# Altium footprint library SG__PCB_SO.PcbLib: 16 footprints
Each footprint in its own frame and in the unit in brackets; x right, y up, seen from the top. Pads: shape width x height; smd on the part's side, far side on the other; paste and mask are expansions set on the pad; w line width, h text height; cw(c..) or ccw(c..) is an arc to the next point about the centre after c.
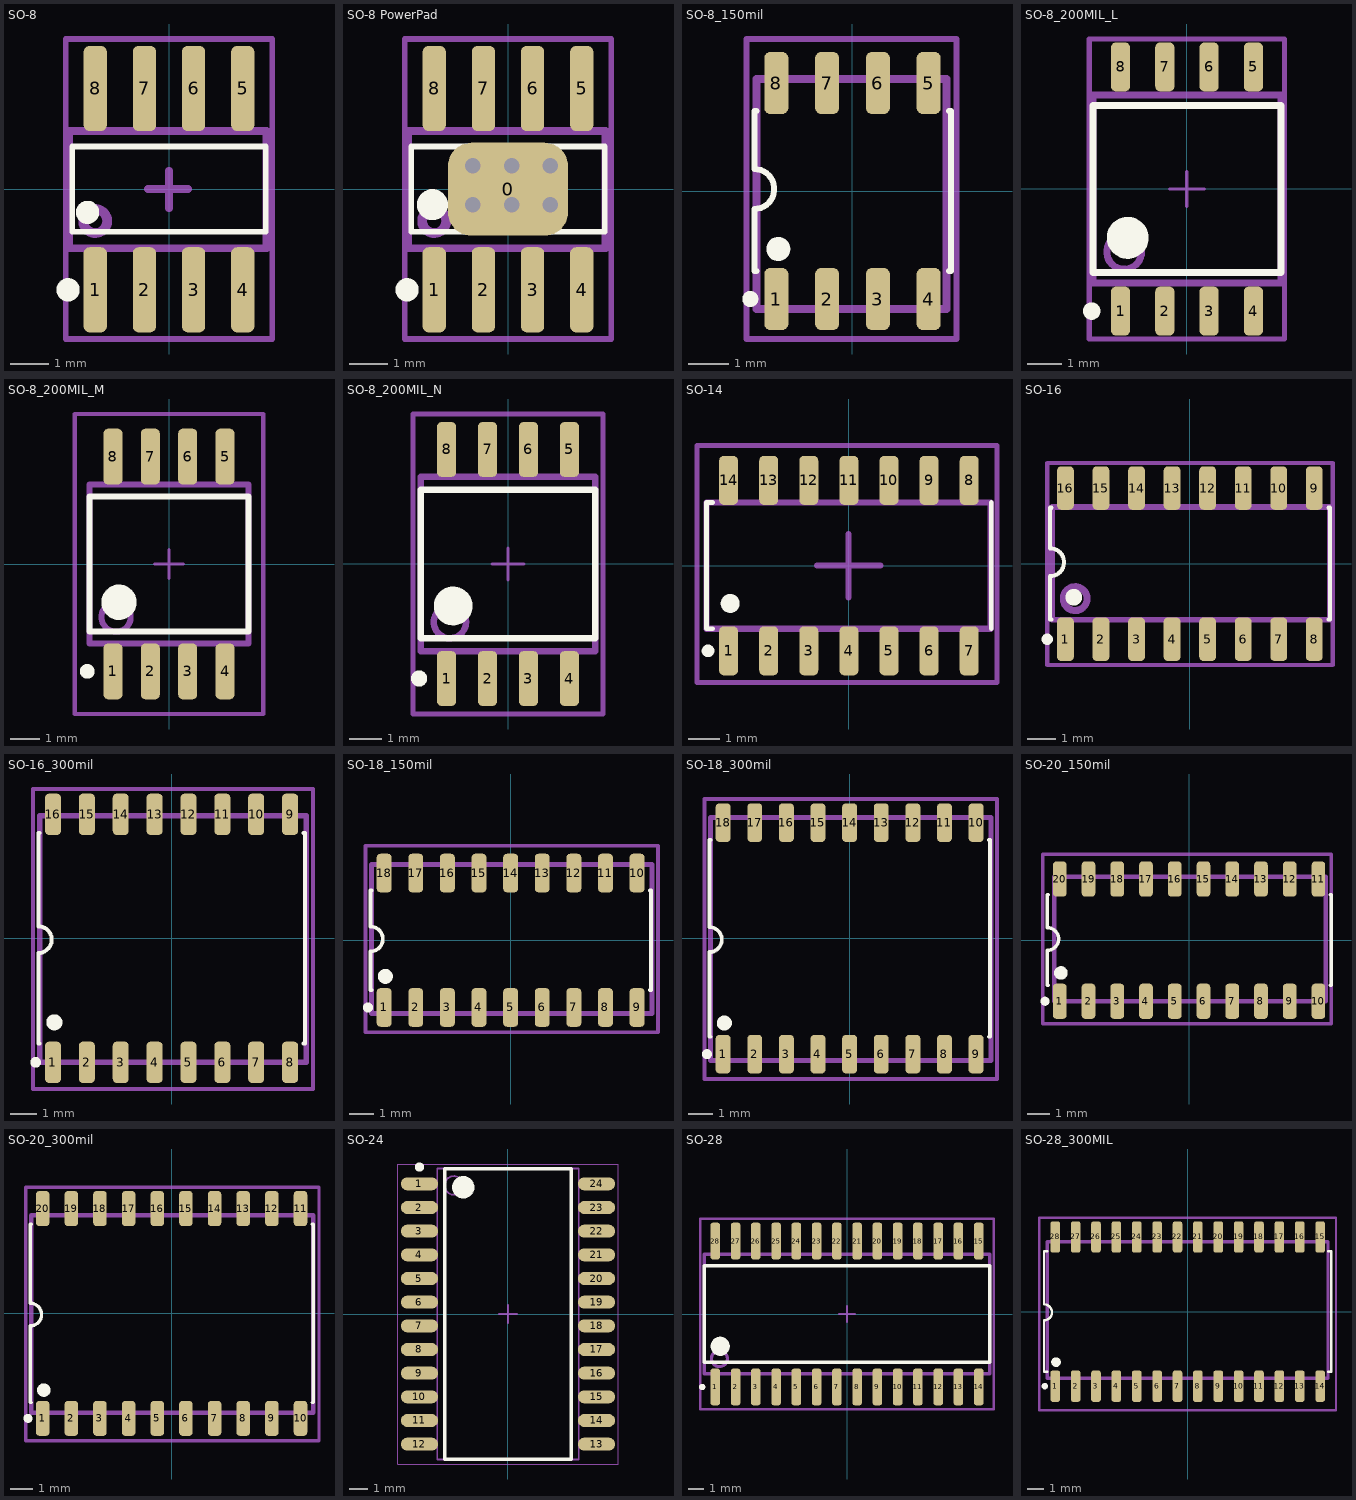
[diagram p0: the footprints below, top view; thin cyan lines are the x and y axes]

## SO-8 [mm] "Small Outline; 8 Leads; Body Width 3.9 mm; Pitch 1.27 mm"
height 1.75
pads (8):
  rrect50% 0.6x2.2 smd mask+0.05: 1(-1.905,-2.6) 2(-0.635,-2.6) 3(0.635,-2.6) 4(1.905,-2.6) 5(1.905,2.6) 6(0.635,2.6) 7(-0.635,2.6) 8(-1.905,2.6)
Top Overlay:
  circle w0.3: c-2.605,-2.6 r0.15
  circle w0.3: c-2.105,-0.6 r0.15
  lines w0.15: -2.5,-1.1 -2.5,1.1 2.5,1.1 2.5,-1.1 -2.5,-1.1
Top Assembly:
  circle w0.254: c-1.905,-0.825 r0.309
  lines w0.2: -2.58,-1.525 -2.58,1.5 2.52,1.5 2.52,-1.525 -2.58,-1.525
Top Courtyard:
  lines w0.15: -2.667,-3.87 2.667,-3.87 2.667,3.877 -2.667,3.877 -2.667,-3.87
  lines w0.2: -0.539,0.004 0,0.004 ; 0,-0.494 0,0.004 ; 0,0.476 0,0.004 ; 0.493,0.004 0,0.004
3D body "so8.stp": height 1.73, standoff -0.04, extent -2.45,-3.068 2.44,3.068

## SO-8 PowerPad [mm] "Small Outline; 8 Leads; Body Width 3.9 mm; Pitch 1.27 mm"
height 1.75
pads (9):
  rrect50% 3.1x2.4 smd: 0(0,0)
  rrect50% 0.6x2.2 smd mask+0.05: 1(-1.905,-2.6) 2(-0.635,-2.6) 3(0.635,-2.6) 4(1.905,-2.6) 5(1.905,2.6) 6(0.635,2.6) 7(-0.635,2.6) 8(-1.905,2.6)
via 1.095,-0.4 diameter 0.8 hole 0.4
via 1.095,0.6 diameter 0.8 hole 0.4
via 0.095,0.6 diameter 0.8 hole 0.4
via 0.095,-0.4 diameter 0.8 hole 0.4
via -0.905,-0.4 diameter 0.8 hole 0.4
via -0.905,0.6 diameter 0.8 hole 0.4
Top Overlay:
  circle w0.5: c-1.95,-0.4 r0.15
  circle w0.3: c-2.605,-2.6 r0.15
  lines w0.15: -2.5,-1.1 -2.5,1.1 2.5,1.1 2.5,-1.1 -2.5,-1.1
Top Assembly:
  circle w0.254: c-1.905,-0.825 r0.309
  lines w0.2: -2.58,-1.525 2.52,-1.525 2.52,1.5 -2.58,1.5 -2.58,-1.525
Top Courtyard:
  lines w0.15: -2.667,-3.87 2.667,-3.87 2.667,3.877 -2.667,3.877 -2.667,-3.87
3D body "so8.stp": height 1.73, standoff -0.04, extent -2.45,-3.068 2.44,3.068

## SO-8_150mil [mm]
pads (8):
  rrect50% 0.6x1.55 smd mask+0.05: 1(-1.905,-2.7) 2(-0.635,-2.7) 3(0.635,-2.7) 4(1.905,-2.7) 5(1.905,2.7) 6(0.635,2.7) 7(-0.635,2.7) 8(-1.905,2.7)
Top Overlay:
  circle w0.2: c-2.555,-2.7 r0.1
  circle w0.3: c-1.855,-1.45 r0.15
  lines w0.15: -2.405,-2 -2.455,-2 -2.455,-0.45 ccw(c-2.455,0.05) -2.455,0.55 -2.455,2 -2.405,2 ; 2.415,-2 2.465,-2 2.465,2 2.415,2
Top Assembly:
  lines w0.2: -2.405,-2.95 2.345,-2.95 2.345,2.8 -2.405,2.8 -2.405,-2.95
Top Courtyard:
  lines w0.15: -2.655,-3.7 2.595,-3.7 2.595,3.8 -2.655,3.8 -2.655,-3.7
3D body "so8.stp": height 1.73, standoff -0.04, extent -2.45,-3.168 2.44,2.968

## SO-8_200MIL_L [mm] "SOIC, 8-Leads, Body 5,28x5,28mm, Pitch 1,27mm, IPC High Density"
height 2.16
pads (8):
  rrect50% 0.55x1.4 smd: 1(-1.905,-3.5) 2(-0.635,-3.5) 3(0.635,-3.5) 4(1.905,-3.5) 5(1.905,3.5) 6(0.635,3.5) 7(-0.635,3.5) 8(-1.905,3.5)
Top Overlay:
  circle w0.25: c-2.73,-3.5 r0.125
  circle w0.6: c-1.7,-1.4 r0.3
  lines w0.2: -2.7,-2.4 2.7,-2.4 2.7,2.4 -2.7,2.4 -2.7,-2.4
Top Assembly:
  circle w0.2: c-1.8,-1.8 r0.5
  lines w0.2: -2.7,-2.7 -2.7,2.7 2.7,2.7 2.7,-2.7 -2.7,-2.7
Top Courtyard:
  lines w0.1: -0.5,0 0.5,0 ; 0,-0.5 0,0.5
  lines w0.15: -2.8,-4.3 -2.8,4.3 2.8,4.3 2.8,-4.3 -2.8,-4.3
3D body "SOIC127P790X216-8L.step": height 2.16, standoff 0, extent -2.7,-3.95 2.7,3.95

## SO-8_200MIL_M [mm] "SOIC, 8-Leads, Body 5,28x5,28mm, Pitch 1,27mm, IPC Low Density"
height 2.16
pads (8):
  rrect50% 0.65x1.9 smd: 1(-1.905,-3.65) 2(-0.635,-3.65) 3(0.635,-3.65) 4(1.905,-3.65) 5(1.905,3.65) 6(0.635,3.65) 7(-0.635,3.65) 8(-1.905,3.65)
Top Overlay:
  circle w0.25: c-2.78,-3.65 r0.125
  circle w0.6: c-1.7,-1.3 r0.3
  lines w0.2: -2.7,-2.3 2.7,-2.3 2.7,2.3 -2.7,2.3 -2.7,-2.3
Top Assembly:
  circle w0.2: c-1.8,-1.8 r0.5
  lines w0.2: -2.7,-2.7 2.7,-2.7 2.7,2.7 -2.7,2.7 -2.7,-2.7
Top Courtyard:
  lines w0.1: -0.5,0 0.5,0 ; 0,-0.5 0,0.5
  lines w0.15: -3.2,-5.1 3.2,-5.1 3.2,5.1 -3.2,5.1 -3.2,-5.1
3D body "SOIC127P790X216-8M.step": height 2.16, standoff 0, extent -2.7,-3.95 2.7,3.95

## SO-8_200MIL_N [mm] "SOIC, 8-Leads, Body 5,28x5,28mm, Pitch 1,27mm, IPC Medium Density"
height 2.16
pads (8):
  rrect50% 0.6x1.7 smd: 1(-1.905,-3.55) 2(-0.635,-3.55) 3(0.635,-3.55) 4(1.905,-3.55) 5(1.905,3.55) 6(0.635,3.55) 7(-0.635,3.55) 8(-1.905,3.55)
Top Overlay:
  circle w0.6: c-1.7,-1.3 r0.3
  circle w0.25: c-2.755,-3.55 r0.125
  lines w0.2: -2.7,-2.3 -2.7,2.3 2.7,2.3 2.7,-2.3 -2.7,-2.3
Top Assembly:
  circle w0.2: c-1.8,-1.8 r0.5
  lines w0.2: -2.7,-2.7 -2.7,2.7 2.7,2.7 2.7,-2.7 -2.7,-2.7
Top Courtyard:
  lines w0.1: -0.5,0 0.5,0 ; 0,-0.5 0,0.5
  lines w0.15: -2.95,-4.65 -2.95,4.65 2.95,4.65 2.95,-4.65 -2.95,-4.65
3D body "SOIC127P790X216-8N.step": height 2.16, standoff 0, extent -2.7,-3.95 2.7,3.95

## SO-14 [mm]
pads (14):
  rrect50% 0.6x1.55 smd mask+0.05: 1(-3.81,-2.7) 2(-2.54,-2.7) 3(-1.27,-2.7) 4(0,-2.7) 5(1.27,-2.7) 6(2.54,-2.7) 7(3.81,-2.7) 8(3.81,2.7) 9(2.54,2.7) 10(1.27,2.7) 11(0,2.7) 12(-1.27,2.7) 13(-2.54,2.7) 14(-3.81,2.7)
Top Overlay:
  circle w0.2: c-4.46,-2.7 r0.1
  circle w0.3: c-3.76,-1.2 r0.15
  lines w0.15: -4.51,-2 -4.51,2 ; -4.46,-2 -4.31,-2 ; -4.46,2 -4.31,2 ; 4.51,-2 4.51,2
Top Assembly:
  lines w0.2: -4.51,-2 4.49,-2 4.49,2 -4.51,2 -4.51,-2
Top Courtyard:
  lines w0.15: -4.81,-3.7 -4.81,3.8 4.69,3.8 4.69,-3.7 -4.81,-3.7
  lines w0.2: -1.01,0 -0.01,0 ; -0.01,-1 -0.01,0 ; -0.01,1 -0.01,0 ; 0.99,0 -0.01,0 ; -0.01,0 -0.01,0
3D body "SO-14.step": height 1.6, standoff 0, extent -4.355,-2.995 4.335,2.995

## SO-16 [mm]
pads (16):
  rrect50% 0.6x1.55 smd mask+0.05: 1(-4.445,-2.7) 2(-3.175,-2.7) 3(-1.905,-2.7) 4(-0.635,-2.7) 5(0.635,-2.7) 6(1.905,-2.7) 7(3.175,-2.7) 8(4.445,-2.7) 9(4.445,2.7) 10(3.175,2.7) 11(1.905,2.7) 12(0.635,2.7) 13(-0.635,2.7) 14(-1.905,2.7) 15(-3.175,2.7) 16(-4.445,2.7)
Top Overlay:
  circle w0.2: c-5.095,-2.7 r0.1
  circle w0.3: c-4.145,-1.2 r0.15
  lines w0.15: -4.945,-2 -4.995,-2 -4.995,-0.45 ccw(c-4.995,0.05) -4.995,0.55 -4.995,2 -4.945,2 ; 4.955,-2 5.005,-2 5.005,2 4.955,2
Top Assembly:
  circle w0.254: c-4.095,-1.25 r0.425
  lines w0.2: -4.92,-2 -4.92,2.025 5.005,2.025 5.005,-2 -4.92,-2
Top Courtyard:
  lines w0.15: -5.095,-3.625 5.105,-3.625 5.105,3.6 -5.095,3.6 -5.095,-3.625
3D body "User_Library-so16-1.stp": height 1.73, standoff -0.04, extent -5.03,-3.118 4.94,3.018

## SO-16_300mil [mm]
pads (16):
  rrect50% 0.6x1.55 smd mask+0.05: 1(-4.445,-4.65) 2(-3.175,-4.65) 3(-1.905,-4.65) 4(-0.635,-4.65) 5(0.635,-4.65) 6(1.905,-4.65) 7(3.175,-4.65) 8(4.445,-4.65) 9(4.445,4.65) 10(3.175,4.65) 11(1.905,4.65) 12(0.635,4.65) 13(-0.635,4.65) 14(-1.905,4.65) 15(-3.175,4.65) 16(-4.445,4.65)
Top Overlay:
  circle w0.2: c-5.095,-4.65 r0.1
  circle w0.3: c-4.395,-3.15 r0.15
  lines w0.15: -4.945,-3.95 -4.995,-3.95 -4.995,-0.55 ccw(c-4.995,-0.05) -4.995,0.45 -4.995,3.95 -4.945,3.95 ; 4.955,-3.95 5.005,-3.95 5.005,3.95 4.955,3.95
Top Assembly:
  lines w0.2: -4.945,-4.65 5.055,-4.65 5.055,4.6 -4.945,4.6 -4.945,-4.65
Top Courtyard:
  lines w0.15: -5.195,-5.65 5.305,-5.65 5.305,5.6 -5.195,5.6 -5.195,-5.65
3D body "so-16W.step": height 3.5, standoff 0, extent -5.12,-5.15 5.08,5.15

## SO-18_150mil [mm]
pads (18):
  rrect50% 0.6x1.55 smd mask+0.05: 1(-5.08,-2.7) 2(-3.81,-2.7) 3(-2.54,-2.7) 4(-1.27,-2.7) 5(0,-2.7) 6(1.27,-2.7) 7(2.54,-2.7) 8(3.81,-2.7) 9(5.08,-2.7) 10(5.08,2.7) 11(3.81,2.7) 12(2.54,2.7) 13(1.27,2.7) 14(0,2.7) 15(-1.27,2.7) 16(-2.54,2.7) 17(-3.81,2.7) 18(-5.08,2.7)
Top Overlay:
  circle w0.3: c-5.03,-1.45 r0.15
  circle w0.2: c-5.73,-2.7 r0.1
  lines w0.15: -5.58,-2 -5.63,-2 -5.63,-0.45 ccw(c-5.63,0.05) -5.63,0.55 -5.63,2 -5.58,2 ; 5.59,-2 5.64,-2 5.64,2 5.59,2
Top Assembly:
  lines w0.2: -5.58,-2.95 5.67,-2.95 5.67,3.05 -5.58,3.05 -5.58,-2.95
Top Courtyard:
  lines w0.15: -5.83,-3.7 5.92,-3.7 5.92,3.8 -5.83,3.8 -5.83,-3.7

## SO-18_300mil [mm]
pads (18):
  rrect50% 0.6x1.55 smd mask+0.05: 1(-5.08,-4.65) 2(-3.81,-4.65) 3(-2.54,-4.65) 4(-1.27,-4.65) 5(0,-4.65) 6(1.27,-4.65) 7(2.54,-4.65) 8(3.81,-4.65) 9(5.08,-4.65) 10(5.08,4.65) 11(3.81,4.65) 12(2.54,4.65) 13(1.27,4.65) 14(0,4.65) 15(-1.27,4.65) 16(-2.54,4.65) 17(-3.81,4.65) 18(-5.08,4.65)
Top Overlay:
  circle w0.2: c-5.73,-4.65 r0.1
  circle w0.3: c-5.03,-3.4 r0.15
  lines w0.15: -5.58,-3.95 -5.63,-3.95 -5.63,-0.55 ccw(c-5.63,-0.05) -5.63,0.45 -5.63,3.95 -5.58,3.95 ; 5.59,-3.95 5.64,-3.95 5.64,3.95 5.59,3.95
Top Assembly:
  lines w0.2: -5.58,-4.9 5.67,-4.9 5.67,4.85 -5.58,4.85 -5.58,-4.9
Top Courtyard:
  lines w0.15: -5.83,-5.65 5.92,-5.65 5.92,5.6 -5.83,5.6 -5.83,-5.65
3D body "User Library-SO-18W.STEP": height 2.48, standoff 0, extent -5.751,-5.167 5.829,5.143

## SO-20_150mil [mm]
pads (20):
  rrect50% 0.6x1.55 smd mask+0.05: 1(-5.715,-2.7) 2(-4.445,-2.7) 3(-3.175,-2.7) 4(-1.905,-2.7) 5(-0.635,-2.7) 6(0.635,-2.7) 7(1.905,-2.7) 8(3.175,-2.7) 9(4.445,-2.7) 10(5.715,-2.7) 11(5.715,2.7) 12(4.445,2.7) 13(3.175,2.7) 14(1.905,2.7) 15(0.635,2.7) 16(-0.635,2.7) 17(-1.905,2.7) 18(-3.175,2.7) 19(-4.445,2.7) 20(-5.715,2.7)
Top Overlay:
  circle w0.2: c-6.365,-2.7 r0.1
  circle w0.3: c-5.665,-1.45 r0.15
  lines w0.15: -6.215,-2 -6.265,-2 -6.265,-0.45 ccw(c-6.265,0.05) -6.265,0.55 -6.265,2 -6.215,2 ; 6.225,-2 6.275,-2 6.275,2 6.225,2
Top Assembly:
  lines w0.2: -5.965,-2.7 6.035,-2.7 6.035,2.8 -5.965,2.8 -5.965,-2.7
Top Courtyard:
  lines w0.15: -6.465,-3.7 6.285,-3.7 6.285,3.8 -6.465,3.8 -6.465,-3.7
3D body "User Library-SOIC-20.step": height 1.5, standoff 0, extent -6.225,-2.94 6.295,3.04

## SO-20_300mil [mm]
pads (20):
  rrect50% 0.6x1.55 smd mask+0.05: 1(-5.715,-4.65) 2(-4.445,-4.65) 3(-3.175,-4.65) 4(-1.905,-4.65) 5(-0.635,-4.65) 6(0.635,-4.65) 7(1.905,-4.65) 8(3.175,-4.65) 9(4.445,-4.65) 10(5.715,-4.65) 11(5.715,4.65) 12(4.445,4.65) 13(3.175,4.65) 14(1.905,4.65) 15(0.635,4.65) 16(-0.635,4.65) 17(-1.905,4.65) 18(-3.175,4.65) 19(-4.445,4.65) 20(-5.715,4.65)
Top Overlay:
  circle w0.2: c-6.365,-4.65 r0.1
  circle w0.3: c-5.665,-3.4 r0.15
  lines w0.15: -6.215,-3.95 -6.265,-3.95 -6.265,-0.55 ccw(c-6.265,-0.05) -6.265,0.45 -6.265,3.95 -6.215,3.95 ; 6.225,-3.95 6.275,-3.95 6.275,3.95 6.225,3.95
Top Assembly:
  lines w0.2: -6.215,-4.4 6.285,-4.4 6.285,4.35 -6.215,4.35 -6.215,-4.4
Top Courtyard:
  lines w0.15: -6.465,-5.65 6.535,-5.65 6.535,5.6 -6.465,5.6 -6.465,-5.65
3D body "SO-20W.STEP": height 2.48, standoff 0, extent -6.41,-5.106 6.41,5.204

## SO-24 [mm] "SOIC, 24-Leads, Body 15,40x7,50mm, Pitch 1,27mm, IPC Medium Density"
height 2.65
pads (24):
  oval 2x0.7 smd: 1(-4.75,6.985) 2(-4.75,5.715) 3(-4.75,4.445) 4(-4.75,3.175) 5(-4.75,1.905) 6(-4.75,0.635) 7(-4.75,-0.635) 8(-4.75,-1.905) 9(-4.75,-3.175) 10(-4.75,-4.445) 11(-4.75,-5.715) 12(-4.75,-6.985) 13(4.75,-6.985) 14(4.75,-5.715) 15(4.75,-4.445) 16(4.75,-3.175) 17(4.75,-1.905) 18(4.75,-0.635) 19(4.75,0.635) 20(4.75,1.905) 21(4.75,3.175) 22(4.75,4.445) 23(4.75,5.715) 24(4.75,6.985)
Top Overlay:
  circle w0.25: c-4.75,7.885 r0.125
  circle w0.6: c-2.4,6.8 r0.3
  lines w0.2: -3.4,-7.8 -3.4,7.8 3.4,7.8 3.4,-7.8 -3.4,-7.8
Top Assembly:
  circle w0.1: c-2.9,6.9 r0.5
  lines w0.1: -3.8,-7.8 3.8,-7.8 3.8,7.8 -3.8,7.8 -3.8,-7.8
Top Courtyard:
  lines w0.05: -5.925,-8.05 5.925,-8.05 5.925,8.05 -5.925,8.05 -5.925,-8.05
Mechanical 15:
  lines w0.1: -0.5,0 0.5,0 ; 0,-0.5 0,0.5
3D body "User Library-SOIC_24-300.STEP": height 2.6, standoff 0, extent -5.2,-7.85 5.2,7.55

## SO-28 [mm]
height 2.65
pads (28):
  rrect50% 0.6x2.3 smd: 1(-8.255,-4.575) 2(-6.985,-4.575) 3(-5.715,-4.575) 4(-4.445,-4.575) 5(-3.175,-4.575) 6(-1.905,-4.575) 7(-0.635,-4.575) 8(0.635,-4.575) 9(1.905,-4.575) 10(3.175,-4.575) 11(4.445,-4.575) 12(5.715,-4.575) 13(6.985,-4.575) 14(8.255,-4.575) 15(8.255,4.575) 16(6.985,4.575) 17(5.715,4.575) 18(4.445,4.575) 19(3.175,4.575) 20(1.905,4.575) 21(0.635,4.575) 22(-0.635,4.575) 23(-1.905,4.575) 24(-3.175,4.575) 25(-4.445,4.575) 26(-5.715,4.575) 27(-6.985,4.575) 28(-8.255,4.575)
Top Overlay:
  circle w0.2: c-9.08,-4.575 r0.1
  circle w0.6: c-7.95,-2.025 r0.3
  lines w0.2: -8.95,-3.025 -8.95,3.025 8.95,3.025 8.95,-3.025 -8.95,-3.025
Top Assembly:
  circle w0.2: c-8,-2.8 r0.5
  lines w0.2: -8.95,-3.75 -8.95,3.75 8.95,3.75 8.95,-3.75 -8.95,-3.75
Top Courtyard:
  lines w0.1: -0.5,0 0.5,0 ; 0,-0.5 0,0.5
  lines w0.15: -9.2,-5.975 -9.2,5.975 9.2,5.975 9.2,-5.975 -9.2,-5.975
3D body "so28.stp": height 2.59, standoff -0.05, extent -9.08,-5.285 9,5.385

## SO-28_300MIL [mm]
pads (28):
  rrect50% 0.6x1.95 smd mask+0.05: 1(-8.255,-4.65) 2(-6.985,-4.65) 3(-5.715,-4.65) 4(-4.445,-4.65) 5(-3.175,-4.65) 6(-1.905,-4.65) 7(-0.635,-4.65) 8(0.635,-4.65) 9(1.905,-4.65) 10(3.175,-4.65) 11(4.445,-4.65) 12(5.715,-4.65) 13(6.985,-4.65) 14(8.255,-4.65) 15(8.255,4.65) 16(6.985,4.65) 17(5.715,4.65) 18(4.445,4.65) 19(3.175,4.65) 20(1.905,4.65) 21(0.635,4.65) 22(-0.635,4.65) 23(-1.905,4.65) 24(-3.175,4.65) 25(-4.445,4.65) 26(-5.715,4.65) 27(-6.985,4.65) 28(-8.255,4.65)
Top Overlay:
  circle w0.2: c-8.905,-4.65 r0.1
  circle w0.3: c-8.205,-3.15 r0.15
  lines w0.15: -8.755,-3.75 -8.955,-3.75 -8.955,-0.55 ccw(c-8.955,-0.05) -8.955,0.45 -8.955,3.75 -8.755,3.75 ; 8.745,-3.75 8.945,-3.75 8.945,3.75 8.745,3.75
Top Assembly:
  lines w0.2: -8.755,-4.15 8.745,-4.15 8.745,4.35 -8.755,4.35 -8.755,-4.15
Top Courtyard:
  lines w0.15: -9.255,-6.15 9.245,-6.15 9.245,5.85 -9.255,5.85 -9.255,-6.15
3D body "User Library-SO-28W.STEP": height 2.48, standoff 0, extent -8.993,-5.222 8.937,5.088